# Altium schematic symbol library SCH - CONNECTORS - TE 3-794677-4.Schlib: 1 symbol
Pins are listed as number, name and electrical type; pins without a type are passive.

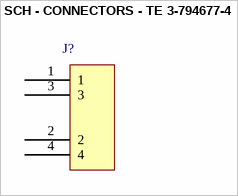
[diagram p0: symbol SCH - CONNECTORS - TE 3-794677-4]

## SCH - CONNECTORS - TE 3-794677-4
designator J?
pins: 1, 2, 3, 4